# Altium schematic symbol library FSS010.SchLib: 1 symbol
Pins are listed as number, name and electrical type; pins without a type are passive.

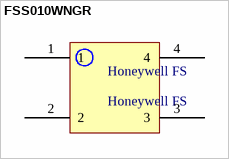
[diagram p0: symbol FSS010WNGR]

## FSS010WNGR
designator Honeywell FS, comment Honeywell FS
Force Sensor Ratiometric-OUT 4-Pin SMD T/R; Manufacturer: Honeywell Sensing & Control; Manufacturer Part Number: FSS010WNGR; Supplier: Digi-Key; Supplier Part Number: FSS010WNGR-ND; RoHS: Yes; Category: Sensors; Pricing: 25=88.7196 (USD); ComponentLink1URL: http://sensing.honeywell.com/index.php?ci_id=44994&src-supplier=Digi-Key; ComponentLink1Description: http://sensing.honeywell.com/index.php?ci_id=44994&src-supplier=Digi-Key; ComponentLink2URL: http://sensing.honeywell.com/index.php?ci_id=50144&src-supplier=Mouser; ComponentLink2Description: http://sensing.honeywell.com/index.php?ci_id=50144&src-supplier=Mouser
footprint FSS010 - duplicate
pins: 1, 2, 3, 4